# Altium schematic symbol library ld29150dt33r.SchLib: 1 symbol
Pins are listed as number, name and electrical type; pins without a type are passive.

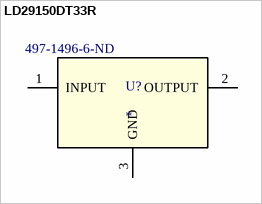
[diagram p0: symbol LD29150DT33R]

## LD29150DT33R
designator U?  Supplier Part Number 1: 497-1496-6-ND
Imported; Manufacturer_Part_Number: LD29150DT33R; Built_By: EMA_UL_Team; Vendor: STMicroelectronics; RefDes: RefDes; Type: DEV; Value: Value; Supplier 1: Digi-Key
footprint DPAK
pins: 1 INPUT, 2 OUTPUT, 3 GND